# Altium footprint library MLACHQ_S.PCBLIB: 155 footprints (part 9 of 10)
Each footprint in its own frame and in the unit in brackets; x right, y up, seen from the top. Pads: shape width x height; smd on the part's side, far side on the other; paste and mask are expansions set on the pad; w line width, h text height; cw(c..) or ccw(c..) is an arc to the next point about the centre after c.
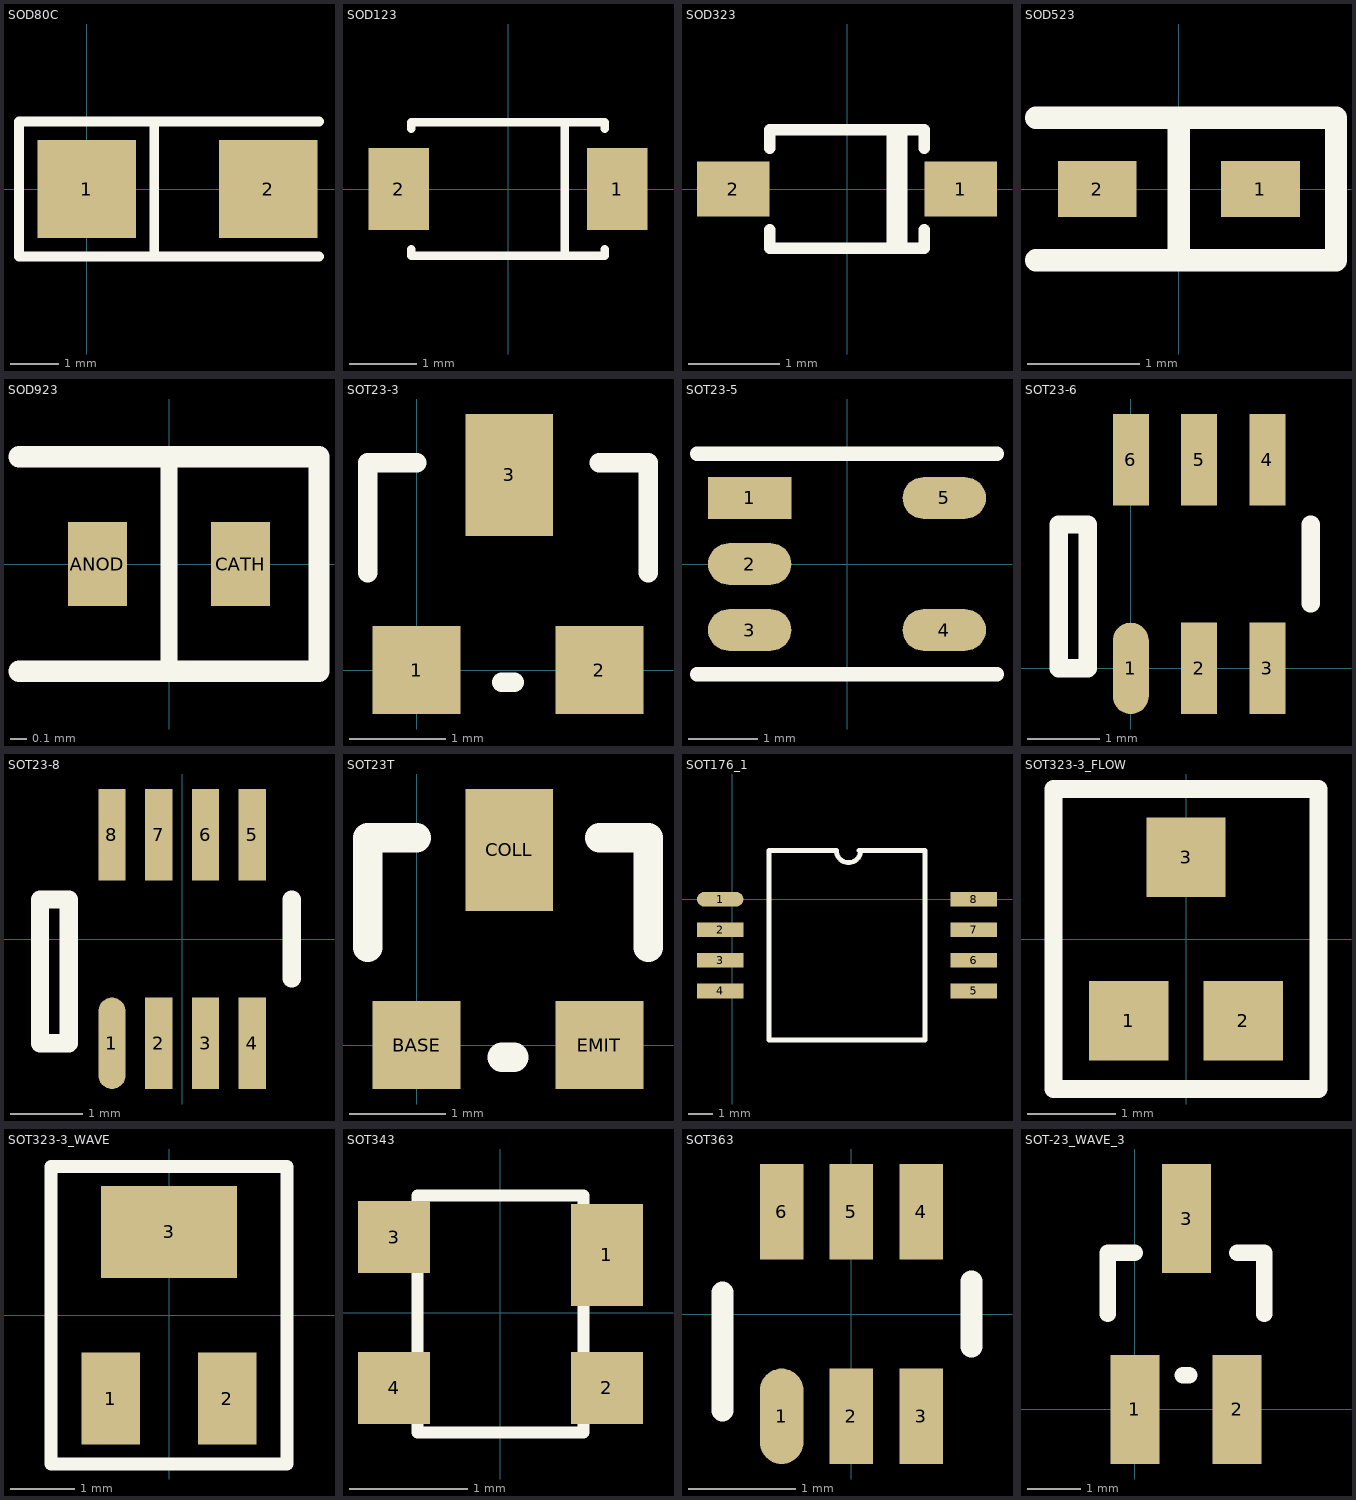
[diagram p8: the footprints below, top view; thin cyan lines are the x and y axes]

## SOD80C [mil]
pads (2):
  rect 80x80 smd: 1(0,0) 2(147.64,0)
TopOverlay:
  lines w8: 188.98,-55 55,-55 ; 188.98,55 55,55 ; 55,-55 55,55 ; 55,-55 -55,-55 -55,55 55,55
3D body: height 23.62, standoff 0, extent 34.45,-31.5 136.81,31.5
3D body: height 23.62, standoff 0, extent 10.83,-31.5 34.45,31.5
3D body: height 23.62, standoff 0, extent -8.86,-31.5 10.83,31.5
3D body: height 23.62, standoff 0, extent 136.81,-31.5 156.5,31.5

## SOD123 [mm]
pads (2):
  rect 0.91x1.22 smd: 1(1.635,0) 2(-1.635,0)
TopOverlay:
  lines w0.127: -1.45,-0.9 -1.45,-1 1.45,-1 1.45,-0.9 ; -1.45,0.9 -1.45,1 1.45,1 1.45,0.9 ; 0.85,-1 0.85,1
3D body: height 0.15, standoff 0, extent 1.35,-0.3 1.9,0.3
3D body: height 0.4, standoff 0, extent 1.35,-0.3 1.5,0.3
3D body: height 1.2, standoff 0, extent -1.35,-0.8 1.35,0.8
3D body: height 0.4, standoff 0, extent -1.5,-0.3 -1.35,0.3
3D body: height 0.15, standoff 0, extent -1.9,-0.3 -1.35,0.3
3D body: height 1.25, standoff 0, extent 0.7,-0.75 1.3,0.75

## SOD323 [mm]
pads (2):
  rect 0.8x0.6 smd: 1(1.25,0) 2(-1.25,0)
TopOverlay:
  lines w0.127: -0.85,-0.45 -0.85,-0.65 0.85,-0.65 0.85,-0.45 ; -0.85,0.45 -0.85,0.65 0.85,0.65 0.85,0.45 ; 0.5,-0.65 0.5,0.65 ; 0.6,-0.65 0.6,0.65

## SOD523 [mm]
pads (2):
  rect 0.7x0.5 smd: 1(0.725,0) 2(-0.725,0)
TopOverlay:
  lines w0.2: -1.27,-0.635 1.397,-0.635 1.397,0.635 -1.27,0.635 ; 0,-0.635 0,0.635
3D body: height 0.14, standoff 0, extent 0.6,-0.15 0.8,0.15
3D body: height 0.14, standoff 0, extent -0.8,-0.15 -0.6,0.15
3D body: height 0.6, standoff 0, extent -0.6,-0.4 0.6,0.4
3D body: height 0.61, standoff 0.6, extent 0.25,-0.4 0.4,0.4

## SOD923 [mm]
pads (2):
  rect 0.35x0.5 smd: ANOD(-0.425,0) CATH(0.425,0)
TopOverlay:
  lines w0.102: 0,-0.635 0,0.635
  lines w0.127: -0.889,-0.635 0.889,-0.635 0.889,0.635 -0.889,0.635

## SOT23-3 [mil]
pads (3):
  rect 36x36 smd: 1(0,0) 2(75,0)
  rect 36x50 smd: 3(38,80)
TopOverlay:
  lines w8: -20,40 -20,85 0,85 ; 35,-5 40,-5 ; 75,85 95,85 95,40
3D body: height 23.62, standoff 0, extent 67.63,-7.24 83.37,12.44
3D body: height 23.62, standoff 0, extent -7.37,-7.24 8.37,12.44
3D body: height 23.62, standoff 0, extent 29.63,67.56 45.37,87.24
3D body: height 43.31, standoff 0, extent -21.56,12.44 96.56,67.56

## SOT23-5 [mm]
pads (5):
  rect 1.2x0.6 smd: 1(-1.4,0.95)
  oval 1.2x0.6 smd: 2(-1.4,0) 3(-1.4,-0.95) 4(1.4,-0.95) 5(1.4,0.95)
TopOverlay:
  lines w0.203: -2.159,-1.587 2.159,-1.587 ; -2.159,1.587 2.159,1.587
3D body: height 1.45, standoff 0.15, extent -0.8,-1.45 0.8,1.45
3D body: height 1, standoff 0, extent -1.5,0.7 -0.8,1.2
3D body: height 1, standoff 0, extent -1.5,-0.252 -0.8,0.248
3D body: height 1, standoff 0, extent -1.5,-1.2 -0.8,-0.7
3D body: height 1, standoff 0, extent 0.8,0.705 1.5,1.205
3D body: height 1, standoff 0, extent 0.8,-1.2 1.5,-0.7

## SOT23-6 [mm]
pads (6):
  oval 0.5x1.27 smd: 1(0,0)
  rect 0.5x1.27 smd: 2(0.95,0) 3(1.9,0) 4(1.9,2.9) 5(0.95,2.9) 6(0,2.9)
TopOverlay:
  lines w0.254: 2.5,0.9 2.5,2 ; -1,0 -1,2 -0.6,2 -0.6,0 -1,0
3D body: height 1, standoff 0, extent 1.65,2.25 2.15,2.95
3D body: height 1, standoff 0, extent -0.255,2.25 0.245,2.95
3D body: height 1, standoff 0, extent 1.65,-0.05 2.15,0.65
3D body: height 1, standoff 0, extent 0.702,-0.05 1.202,0.65
3D body: height 1, standoff 0, extent -0.25,-0.05 0.25,0.65
3D body: height 1.45, standoff 0.15, extent -0.5,0.65 2.4,2.25
3D body: height 1, standoff 0, extent 0.695,2.25 1.195,2.95

## SOT23-8 [mm]
pads (8):
  oval 0.38x1.27 smd: 1(-0.975,-1.45)
  rect 0.38x1.27 smd: 2(-0.325,-1.45) 3(0.325,-1.45) 4(0.975,-1.45) 5(0.975,1.45) 6(0.325,1.45) 7(-0.325,1.45) 8(-0.975,1.45)
TopOverlay:
  lines w0.254: 1.525,-0.55 1.525,0.55 ; -1.975,-1.45 -1.975,0.55 -1.575,0.55 -1.575,-1.45 -1.975,-1.45
3D body: height 1, standoff 0, extent -1.175,0.8 -0.775,1.5
3D body: height 1, standoff 0, extent -0.525,0.8 -0.125,1.5
3D body: height 1, standoff 0, extent 0.125,0.8 0.525,1.5
3D body: height 1, standoff 0, extent 0.775,0.8 1.175,1.5
3D body: height 1, standoff 0, extent 0.775,-1.5 1.175,-0.8
3D body: height 1, standoff 0, extent 0.125,-1.5 0.525,-0.8
3D body: height 1, standoff 0, extent -0.525,-1.5 -0.125,-0.8
3D body: height 1, standoff 0, extent -1.175,-1.5 -0.775,-0.8
3D body: height 1.45, standoff 0.15, extent -1.5,-0.8 1.5,0.8

## SOT23T [mil]
pads (3):
  rect 36x36 smd: BASE(0,0) EMIT(75,0)
  rect 36x50 smd: COLL(38,80)
TopOverlay:
  lines w12: -20,40 -20,85 0,85 ; 35,-5 40,-5 ; 75,85 95,85 95,40

## SOT176_1 [mil]
pads (8):
  oval 76x24 smd: 1(-20,0)
  rect 76x24 smd: 2(-20,-50) 3(-20,-100) 4(-20,-150) 5(395,-150) 6(395,-100) 7(395,-50) 8(395,0)
TopOverlay:
  lines w8: 167,80 60,80 60,-230 315,-230 315,80 207,80 ; 170,80 ccw(c190,80) 210,80

## SOT323-3_FLOW [mm]
pads (3):
  rect 0.9x0.9 smd: 1(-0.65,-0.925) 2(0.65,-0.925) 3(0,0.925)
TopOverlay:
  lines w0.2: -1.5,-1.7 1.5,-1.7 ; -1.5,1.7 1.5,1.7
  lines w0.203: -1.5,-1.7 -1.5,1.7 ; 1.5,-1.7 1.5,1.7
3D body: height 0.6, standoff 0, extent 0.5,-1 0.9,-0.6
3D body: height 0.6, standoff 0, extent -0.9,-1 -0.5,-0.6
3D body: height 0.6, standoff 0, extent -0.2,0.6 0.2,1
3D body: height 1.1, standoff 0, extent -1,-0.6 1,0.6

## SOT323-3_WAVE [mm]
pads (3):
  rect 0.9x1.425 smd: 1(-0.9,-1.288) 2(0.9,-1.288)
  rect 2.1x1.425 smd: 3(0,1.288)
TopOverlay:
  lines w0.2: -1.825,-2.3 1.825,-2.3 ; -1.825,2.3 1.825,2.3
  lines w0.203: -1.825,-2.3 -1.825,2.3 ; 1.825,-2.3 1.825,2.3
3D body: height 0.6, standoff 0, extent 0.765,-1.2 1.165,-0.7
3D body: height 0.6, standoff 0, extent -1.14,-1.2 -0.74,-0.7
3D body: height 0.6, standoff 0, extent -0.2,0.7 0.2,1.2
3D body: height 1.1, standoff 0, extent -1.5,-0.7 1.5,0.7

## SOT343 [mil]
pads (4):
  rect 24x34 smd: 1(35.43,19.19)
  rect 24x24 smd: 2(35.43,-25.1) 3(-35.43,25.1) 4(-35.43,-25.1)
TopOverlay:
  lines w4: -27.56,-39.86 -27.56,38.88 27.56,38.88 27.56,-39.86 -27.56,-39.86

## SOT363 [mil]
pads (6):
  rrect100% 16x35 smd mask+6: 1(-25.59,-37.5)
  rect 16x35 smd mask+6: 2(0,-37.5) 3(25.59,-37.5) 4(25.59,37.5) 5(0,37.5) 6(-25.59,37.5)
TopOverlay:
  lines w8: -47.24,-35.43 -47.24,7.87 ; 44,-12 44,12
3D body: height 40, standoff 0, extent -44,-27 44,27
3D body: height 28, standoff 0, extent -8,27 8,44
3D body: height 28, standoff 0, extent -34,27 -18,44
3D body: height 28, standoff 0, extent 18,27 34,44
3D body: height 28, standoff 0, extent 18,-44 34,-27
3D body: height 28, standoff 0, extent -34,-44 -18,-27
3D body: height 28, standoff 0, extent -8,-44 8,-27

## SOT-23_WAVE_3 [mil]
pads (3):
  rect 36x80 smd: 1(0,0) 2(75,0) 3(38,140)
TopOverlay:
  lines w12: -20,70 -20,115 0,115 ; 35,25 40,25 ; 75,115 95,115 95,70
3D body: height 23.62, standoff 0, extent 67.63,24.25 83.37,43.94
3D body: height 23.62, standoff 0, extent -7.37,24.25 8.37,43.94
3D body: height 23.62, standoff 0, extent 29.63,99.06 45.37,118.74
3D body: height 43.31, standoff 0, extent -21.56,43.94 96.56,99.06